# EAGLE library part LTC3105 (library zkseagle)
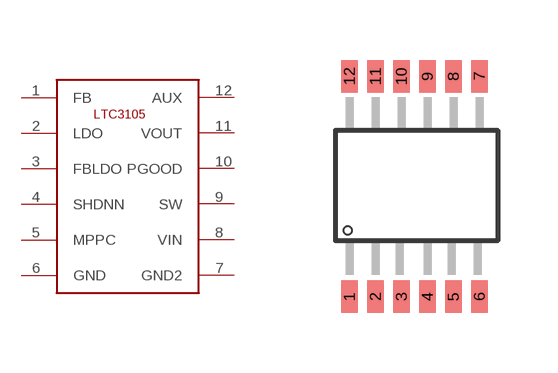
[diagram p12: symbol with the pads of MSOP12_P; footprint MSOP12_P]

Designator prefix -

## LTC3105  [MSOP12_P]
1  FB
2  LDO
3  FBLDO
4  SHDNN
5  MPPC
6  GND
7  GND2
8  VIN
9  SW
10  PGOOD
11  VOUT
12  AUX

## Footprint MSOP12_P (pad centres in mm)
Mini Small Outline Package
smd 0.406 x 0.813: 1 0,0; 2 0.65,0; 3 1.3,0; 4 1.95,0; 5 2.6,0; 6 3.25,0; 7 3.25,5.52; 8 2.6,5.52; 9 1.95,5.52; 10 1.3,5.52; 11 0.65,5.52; 12 0,5.52